# Altium integrated library microchip.IntLib: 312 symbols (part 5 of 5)
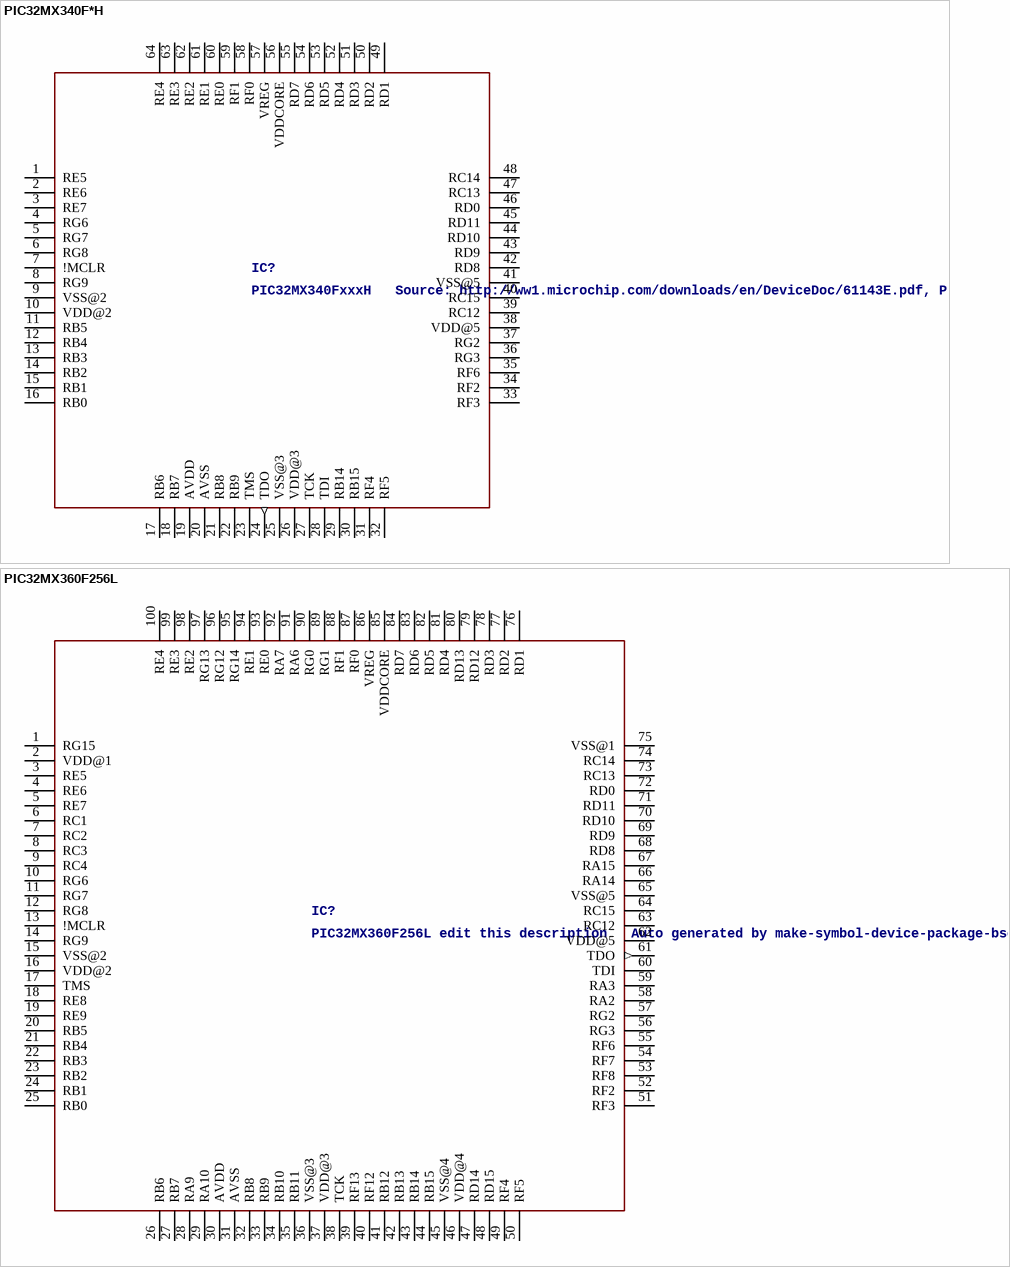
[diagram p47: symbols PIC32MX340F*H to PIC32MX360F256L]

## PIC32MX360F256L
designator IC?, comment PIC32MX360F256L edit this description   Auto generated by make-symbol-device-package-bsdl.ulp Rev. 25 Source: PIC32MX360F256L.bsdl
MPN: PIC32MX360F256L-80I/PT; OC_FARNELL: 1523323; OC_NEWARK: 77M3151
footprint SQFP-S-12X12-100
pins: 1 RG15, 2 VDD@1 (power), 3 RE5, 4 RE6, 5 RE7, 6 RC1, 7 RC2, 8 RC3, 9 RC4, 10 RG6, 11 RG7, 12 RG8, 13 !MCLR, 14 RG9, 15 VSS@2 (power), 16 VDD@2 (power), 17 TMS, 18 RE8, 19 RE9, 20 RB5, 21 RB4, 22 RB3, 23 RB2, 24 RB1, 25 RB0, 26 RB6, 27 RB7, 28 RA9, 29 RA10, 30 AVDD (power), 31 AVSS (power), 32 RB8, 33 RB9, 34 RB10, 35 RB11, 36 VSS@3 (power), 37 VDD@3 (power), 38 TCK, 39 RF13, 40 RF12, 41 RB12, 42 RB13, 43 RB14, 44 RB15, 45 VSS@4 (power), 46 VDD@4 (power), 47 RD14, 48 RD15, 49 RF4, 50 RF5, 51 RF3, 52 RF2, 53 RF8, 54 RF7, 55 RF6, 56 RG3, 57 RG2, 58 RA2, 59 RA3, 60 TDI, 61 TDO (out), 62 VDD@5 (power), 63 RC12, 64 RC15, 65 VSS@5 (power), 66 RA14, 67 RA15, 68 RD8, 69 RD9, 70 RD10, 71 RD11, 72 RD0, 73 RC13, 74 RC14, 75 VSS@1 (power), 76 RD1, 77 RD2, 78 RD3, 79 RD12, 80 RD13, 81 RD4, 82 RD5, 83 RD6, 84 RD7, 85 VDDCORE (power), 86 VREG, 87 RF0, 88 RF1, 89 RG1, 90 RG0, 91 RA6, 92 RA7, 93 RE0, 94 RE1, 95 RG14, 96 RG12, 97 RG13, 98 RE2, 99 RE3, 100 RE4

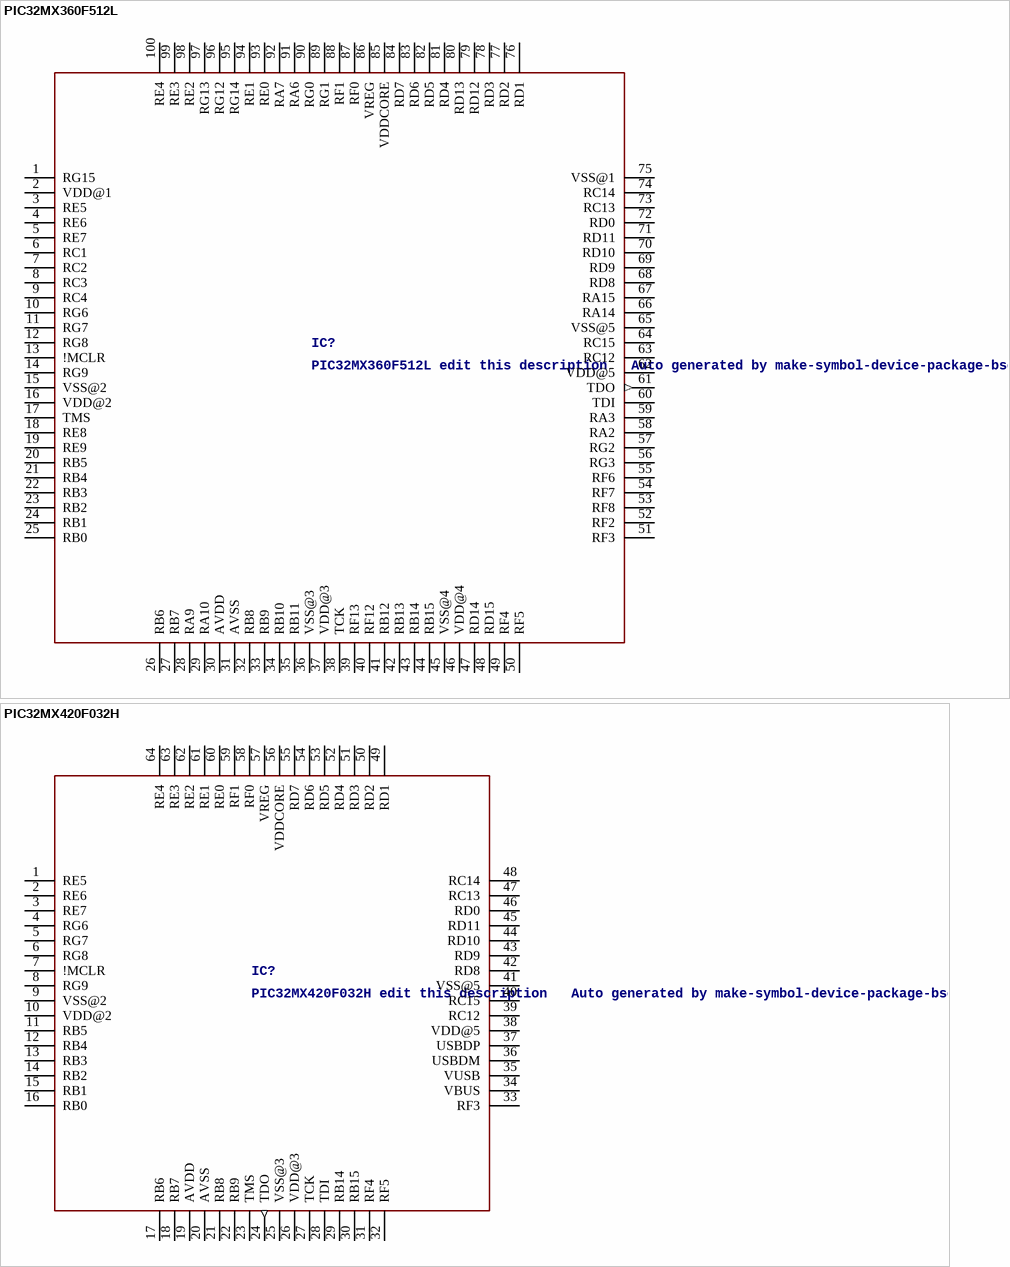
[diagram p39: symbols PIC32MX360F512L to PIC32MX420F032H]

## PIC32MX360F512L
designator IC?, comment PIC32MX360F512L edit this description   Auto generated by make-symbol-device-package-bsdl.ulp Rev. 25 Source: PIC32MX360F512L.bsdl
MPN: PIC32MX360F512L-80I/PT; OC_FARNELL: 1523324; OC_NEWARK: 77M3152
footprint SQFP-S-12X12-100
pins: 1 RG15, 2 VDD@1 (power), 3 RE5, 4 RE6, 5 RE7, 6 RC1, 7 RC2, 8 RC3, 9 RC4, 10 RG6, 11 RG7, 12 RG8, 13 !MCLR, 14 RG9, 15 VSS@2 (power), 16 VDD@2 (power), 17 TMS, 18 RE8, 19 RE9, 20 RB5, 21 RB4, 22 RB3, 23 RB2, 24 RB1, 25 RB0, 26 RB6, 27 RB7, 28 RA9, 29 RA10, 30 AVDD (power), 31 AVSS (power), 32 RB8, 33 RB9, 34 RB10, 35 RB11, 36 VSS@3 (power), 37 VDD@3 (power), 38 TCK, 39 RF13, 40 RF12, 41 RB12, 42 RB13, 43 RB14, 44 RB15, 45 VSS@4 (power), 46 VDD@4 (power), 47 RD14, 48 RD15, 49 RF4, 50 RF5, 51 RF3, 52 RF2, 53 RF8, 54 RF7, 55 RF6, 56 RG3, 57 RG2, 58 RA2, 59 RA3, 60 TDI, 61 TDO (out), 62 VDD@5 (power), 63 RC12, 64 RC15, 65 VSS@5 (power), 66 RA14, 67 RA15, 68 RD8, 69 RD9, 70 RD10, 71 RD11, 72 RD0, 73 RC13, 74 RC14, 75 VSS@1 (power), 76 RD1, 77 RD2, 78 RD3, 79 RD12, 80 RD13, 81 RD4, 82 RD5, 83 RD6, 84 RD7, 85 VDDCORE (power), 86 VREG, 87 RF0, 88 RF1, 89 RG1, 90 RG0, 91 RA6, 92 RA7, 93 RE0, 94 RE1, 95 RG14, 96 RG12, 97 RG13, 98 RE2, 99 RE3, 100 RE4

## PIC32MX420F032H
designator IC?, comment PIC32MX420F032H edit this description   Auto generated by make-symbol-device-package-bsdl.ulp Rev. 25 Source: PIC32MX420F032H.bsdl
MPN: PIC32MX420F032H-40I/PT; MF: MICROCHIP; OC_FARNELL: 1640230; OC_NEWARK: 98M1932
footprint TQFP64-10X10X1MM
pins: 1 RE5, 2 RE6, 3 RE7, 4 RG6, 5 RG7, 6 RG8, 7 !MCLR, 8 RG9, 9 VSS@2 (power), 10 VDD@2 (power), 11 RB5, 12 RB4, 13 RB3, 14 RB2, 15 RB1, 16 RB0, 17 RB6, 18 RB7, 19 AVDD (power), 20 AVSS (power), 21 RB8, 22 RB9, 23 TMS, 24 TDO (out), 25 VSS@3 (power), 26 VDD@3 (power), 27 TCK, 28 TDI, 29 RB14, 30 RB15, 31 RF4, 32 RF5, 33 RF3, 34 VBUS, 35 VUSB, 36 USBDM, 37 USBDP, 38 VDD@5 (power), 39 RC12, 40 RC15, 41 VSS@5 (power), 42 RD8, 43 RD9, 44 RD10, 45 RD11, 46 RD0, 47 RC13, 48 RC14, 49 RD1, 50 RD2, 51 RD3, 52 RD4, 53 RD5, 54 RD6, 55 RD7, 56 VDDCORE (power), 57 VREG, 58 RF0, 59 RF1, 60 RE0, 61 RE1, 62 RE2, 63 RE3, 64 RE4

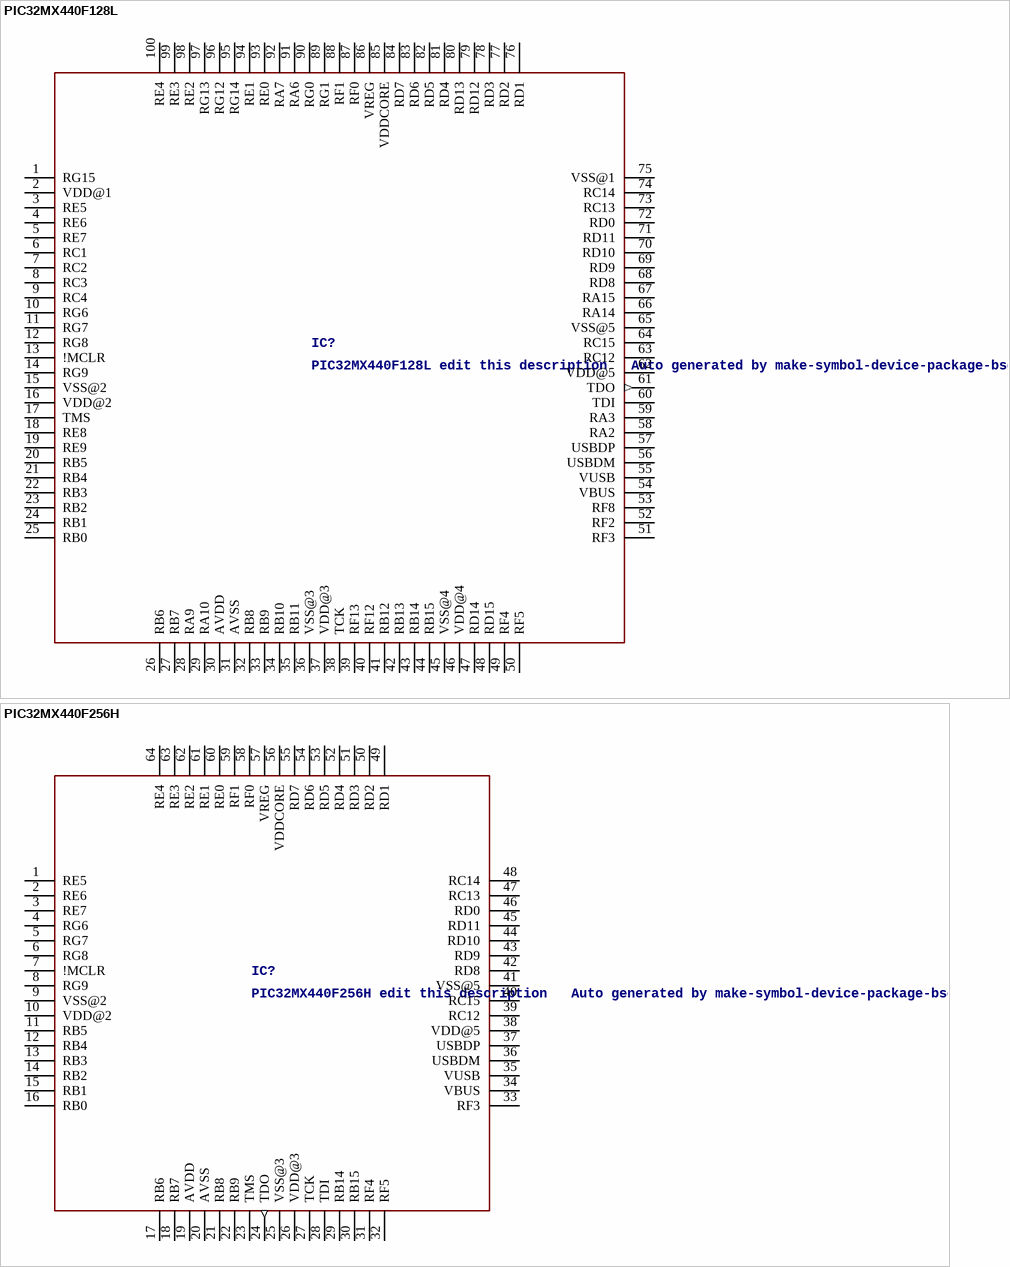
[diagram p40: symbols PIC32MX440F128L to PIC32MX440F256H]

## PIC32MX440F128L
designator IC?, comment PIC32MX440F128L edit this description   Auto generated by make-symbol-device-package-bsdl.ulp Rev. 25 Source: PIC32MX440F128L.bsdl
MPN: PIC32MX440F128L-80I/PT; OC_FARNELL: 1640231; OC_NEWARK: 98M1934
footprint SQFP-S-12X12-100
pins: 1 RG15, 2 VDD@1 (power), 3 RE5, 4 RE6, 5 RE7, 6 RC1, 7 RC2, 8 RC3, 9 RC4, 10 RG6, 11 RG7, 12 RG8, 13 !MCLR, 14 RG9, 15 VSS@2 (power), 16 VDD@2 (power), 17 TMS, 18 RE8, 19 RE9, 20 RB5, 21 RB4, 22 RB3, 23 RB2, 24 RB1, 25 RB0, 26 RB6, 27 RB7, 28 RA9, 29 RA10, 30 AVDD (power), 31 AVSS (power), 32 RB8, 33 RB9, 34 RB10, 35 RB11, 36 VSS@3 (power), 37 VDD@3 (power), 38 TCK, 39 RF13, 40 RF12, 41 RB12, 42 RB13, 43 RB14, 44 RB15, 45 VSS@4 (power), 46 VDD@4 (power), 47 RD14, 48 RD15, 49 RF4, 50 RF5, 51 RF3, 52 RF2, 53 RF8, 54 VBUS, 55 VUSB, 56 USBDM, 57 USBDP, 58 RA2, 59 RA3, 60 TDI, 61 TDO (out), 62 VDD@5 (power), 63 RC12, 64 RC15, 65 VSS@5 (power), 66 RA14, 67 RA15, 68 RD8, 69 RD9, 70 RD10, 71 RD11, 72 RD0, 73 RC13, 74 RC14, 75 VSS@1 (power), 76 RD1, 77 RD2, 78 RD3, 79 RD12, 80 RD13, 81 RD4, 82 RD5, 83 RD6, 84 RD7, 85 VDDCORE (power), 86 VREG, 87 RF0, 88 RF1, 89 RG1, 90 RG0, 91 RA6, 92 RA7, 93 RE0, 94 RE1, 95 RG14, 96 RG12, 97 RG13, 98 RE2, 99 RE3, 100 RE4

## PIC32MX440F256H
designator IC?, comment PIC32MX440F256H edit this description   Auto generated by make-symbol-device-package-bsdl.ulp Rev. 25 Source: PIC32MX440F256H.bsdl
MPN: PIC32MX440F256H-80I/PT; OC_FARNELL: 1778947; OC_NEWARK: 98M1935
footprint TQFP64-10X10
pins: 1 RE5, 2 RE6, 3 RE7, 4 RG6, 5 RG7, 6 RG8, 7 !MCLR, 8 RG9, 9 VSS@2 (power), 10 VDD@2 (power), 11 RB5, 12 RB4, 13 RB3, 14 RB2, 15 RB1, 16 RB0, 17 RB6, 18 RB7, 19 AVDD (power), 20 AVSS (power), 21 RB8, 22 RB9, 23 TMS, 24 TDO (out), 25 VSS@3 (power), 26 VDD@3 (power), 27 TCK, 28 TDI, 29 RB14, 30 RB15, 31 RF4, 32 RF5, 33 RF3, 34 VBUS, 35 VUSB, 36 USBDM, 37 USBDP, 38 VDD@5 (power), 39 RC12, 40 RC15, 41 VSS@5 (power), 42 RD8, 43 RD9, 44 RD10, 45 RD11, 46 RD0, 47 RC13, 48 RC14, 49 RD1, 50 RD2, 51 RD3, 52 RD4, 53 RD5, 54 RD6, 55 RD7, 56 VDDCORE (power), 57 VREG, 58 RF0, 59 RF1, 60 RE0, 61 RE1, 62 RE2, 63 RE3, 64 RE4

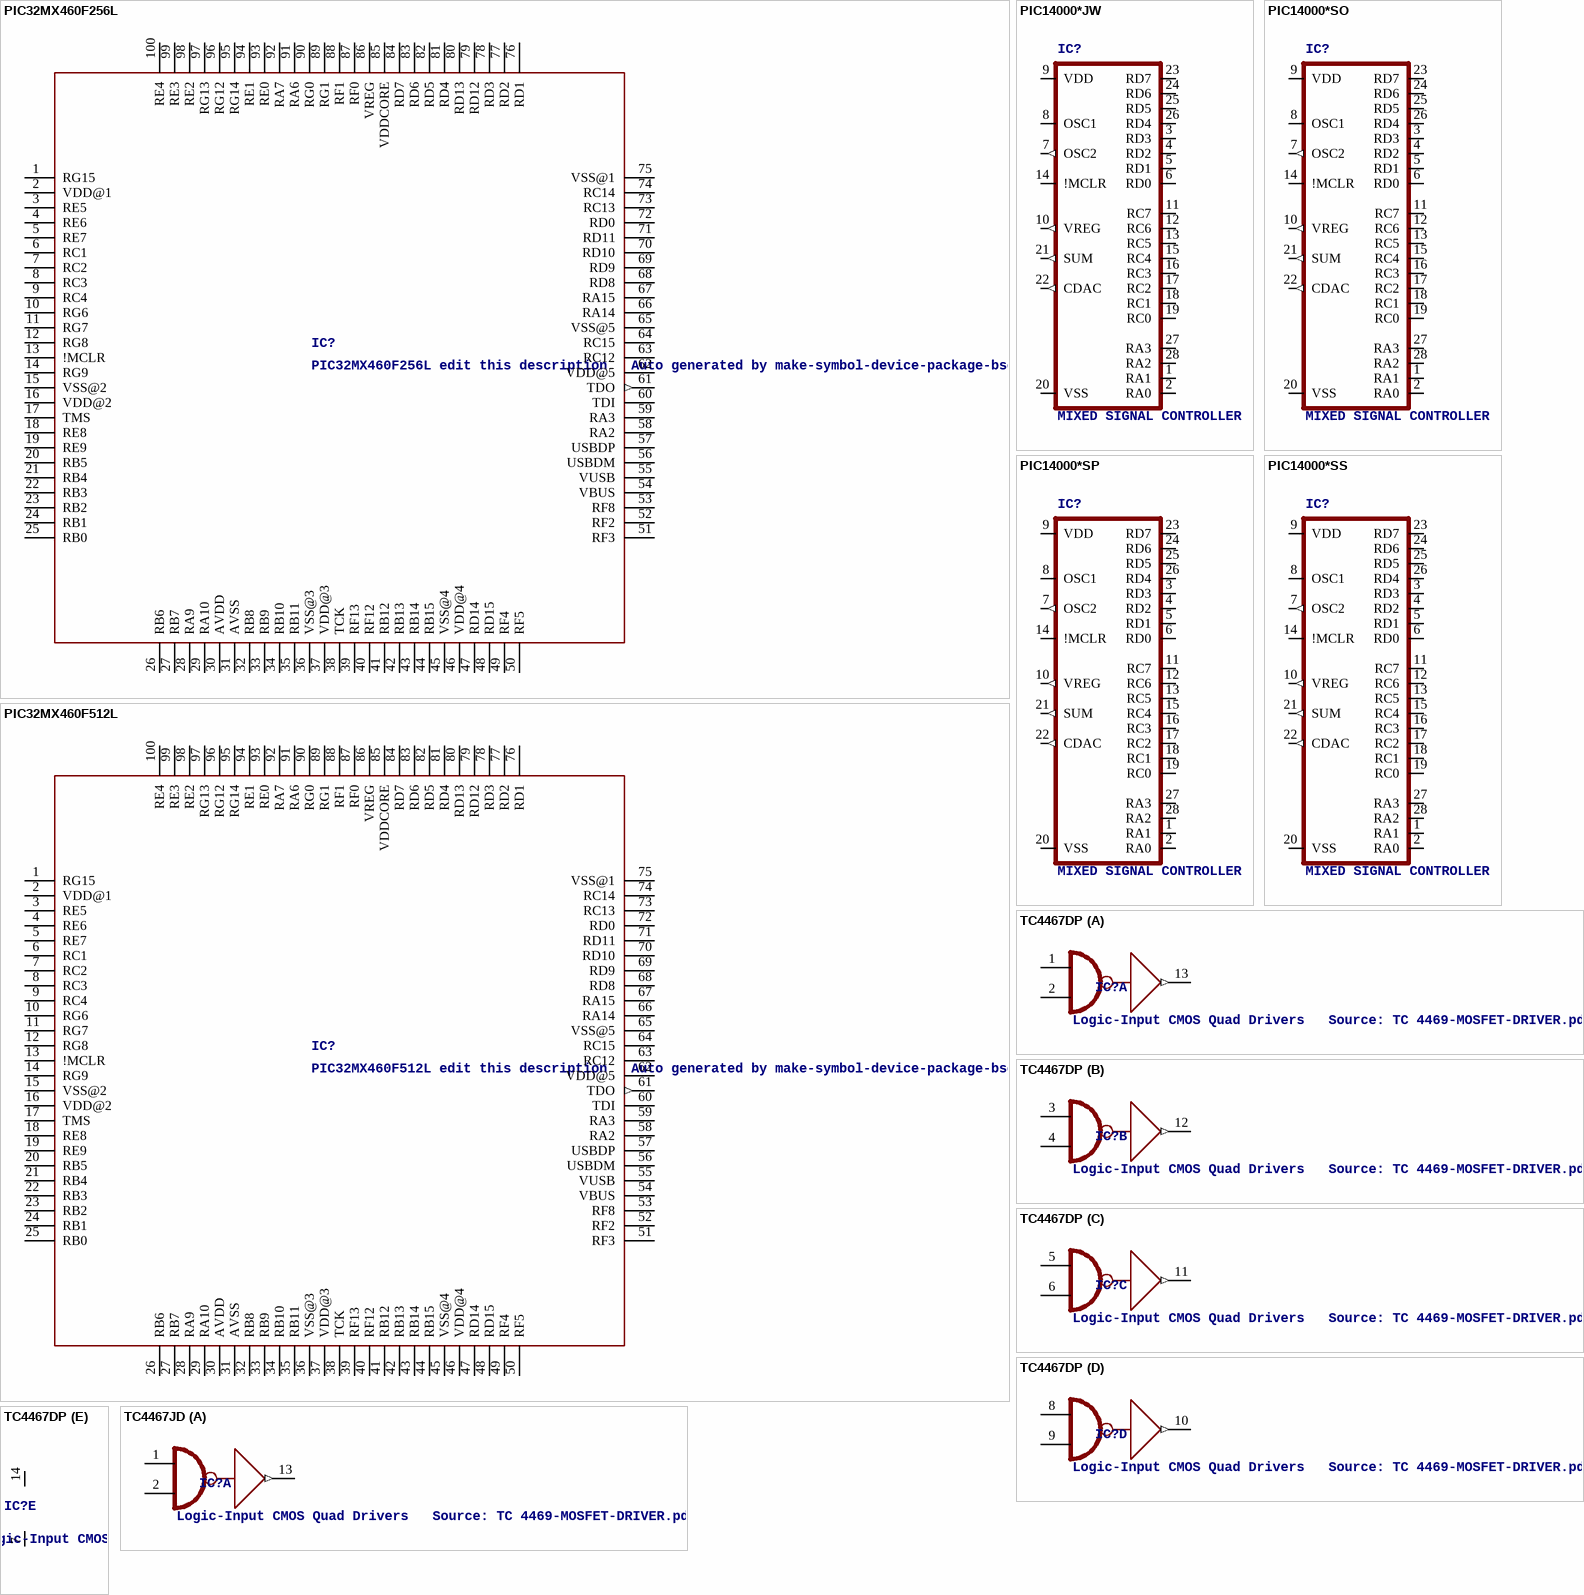
[diagram p41: symbols PIC32MX460F256L to TC4467JD]

## PIC32MX460F256L
designator IC?, comment PIC32MX460F256L edit this description   Auto generated by make-symbol-device-package-bsdl.ulp Rev. 25 Source: PIC32MX460F256L.bsdl
MPN: PIC32MX460F256L-80I/PT; OC_FARNELL: 1778952; OC_NEWARK: 98M1937
footprint SQFP-S-12X12-100
pins: 1 RG15, 2 VDD@1 (power), 3 RE5, 4 RE6, 5 RE7, 6 RC1, 7 RC2, 8 RC3, 9 RC4, 10 RG6, 11 RG7, 12 RG8, 13 !MCLR, 14 RG9, 15 VSS@2 (power), 16 VDD@2 (power), 17 TMS, 18 RE8, 19 RE9, 20 RB5, 21 RB4, 22 RB3, 23 RB2, 24 RB1, 25 RB0, 26 RB6, 27 RB7, 28 RA9, 29 RA10, 30 AVDD (power), 31 AVSS (power), 32 RB8, 33 RB9, 34 RB10, 35 RB11, 36 VSS@3 (power), 37 VDD@3 (power), 38 TCK, 39 RF13, 40 RF12, 41 RB12, 42 RB13, 43 RB14, 44 RB15, 45 VSS@4 (power), 46 VDD@4 (power), 47 RD14, 48 RD15, 49 RF4, 50 RF5, 51 RF3, 52 RF2, 53 RF8, 54 VBUS, 55 VUSB, 56 USBDM, 57 USBDP, 58 RA2, 59 RA3, 60 TDI, 61 TDO (out), 62 VDD@5 (power), 63 RC12, 64 RC15, 65 VSS@5 (power), 66 RA14, 67 RA15, 68 RD8, 69 RD9, 70 RD10, 71 RD11, 72 RD0, 73 RC13, 74 RC14, 75 VSS@1 (power), 76 RD1, 77 RD2, 78 RD3, 79 RD12, 80 RD13, 81 RD4, 82 RD5, 83 RD6, 84 RD7, 85 VDDCORE (power), 86 VREG, 87 RF0, 88 RF1, 89 RG1, 90 RG0, 91 RA6, 92 RA7, 93 RE0, 94 RE1, 95 RG14, 96 RG12, 97 RG13, 98 RE2, 99 RE3, 100 RE4

## PIC32MX460F512L
designator IC?, comment PIC32MX460F512L edit this description   Auto generated by make-symbol-device-package-bsdl.ulp Rev. 25 Source: PIC32MX460F512L.bsdl
MPN: PIC32MX460F512L-80I/PT; OC_FARNELL: 1640233; OC_NEWARK: 98M1938
footprint SQFP-S-12X12-100
pins: 1 RG15, 2 VDD@1 (power), 3 RE5, 4 RE6, 5 RE7, 6 RC1, 7 RC2, 8 RC3, 9 RC4, 10 RG6, 11 RG7, 12 RG8, 13 !MCLR, 14 RG9, 15 VSS@2 (power), 16 VDD@2 (power), 17 TMS, 18 RE8, 19 RE9, 20 RB5, 21 RB4, 22 RB3, 23 RB2, 24 RB1, 25 RB0, 26 RB6, 27 RB7, 28 RA9, 29 RA10, 30 AVDD (power), 31 AVSS (power), 32 RB8, 33 RB9, 34 RB10, 35 RB11, 36 VSS@3 (power), 37 VDD@3 (power), 38 TCK, 39 RF13, 40 RF12, 41 RB12, 42 RB13, 43 RB14, 44 RB15, 45 VSS@4 (power), 46 VDD@4 (power), 47 RD14, 48 RD15, 49 RF4, 50 RF5, 51 RF3, 52 RF2, 53 RF8, 54 VBUS, 55 VUSB, 56 USBDM, 57 USBDP, 58 RA2, 59 RA3, 60 TDI, 61 TDO (out), 62 VDD@5 (power), 63 RC12, 64 RC15, 65 VSS@5 (power), 66 RA14, 67 RA15, 68 RD8, 69 RD9, 70 RD10, 71 RD11, 72 RD0, 73 RC13, 74 RC14, 75 VSS@1 (power), 76 RD1, 77 RD2, 78 RD3, 79 RD12, 80 RD13, 81 RD4, 82 RD5, 83 RD6, 84 RD7, 85 VDDCORE (power), 86 VREG, 87 RF0, 88 RF1, 89 RG1, 90 RG0, 91 RA6, 92 RA7, 93 RE0, 94 RE1, 95 RG14, 96 RG12, 97 RG13, 98 RE2, 99 RE3, 100 RE4

## PIC14000*JW
designator IC?, comment MIXED SIGNAL CONTROLLER
OC_FARNELL: unknown; OC_NEWARK: unknown
footprint DIL28-6
pins: 1 RA1, 2 RA0, 3 RD3, 4 RD2, 5 RD1, 6 RD0, 7 OSC2 (out), 8 OSC1, 9 VDD (power), 10 VREG (out), 11 RC7, 12 RC6, 13 RC5, 14 !MCLR, 15 RC4, 16 RC3, 17 RC2, 18 RC1, 19 RC0, 20 VSS (power), 21 SUM (out), 22 CDAC (out), 23 RD7, 24 RD6, 25 RD5, 26 RD4, 27 RA3, 28 RA2

## PIC14000*SO
designator IC?, comment MIXED SIGNAL CONTROLLER
MPN: PIC14000-04/SO; MF: MICROCHIP; OC_FARNELL: unknown; OC_NEWARK: 23C3058
footprint SO28W
pins: 1 RA1, 2 RA0, 3 RD3, 4 RD2, 5 RD1, 6 RD0, 7 OSC2 (out), 8 OSC1, 9 VDD (power), 10 VREG (out), 11 RC7, 12 RC6, 13 RC5, 14 !MCLR, 15 RC4, 16 RC3, 17 RC2, 18 RC1, 19 RC0, 20 VSS (power), 21 SUM (out), 22 CDAC (out), 23 RD7, 24 RD6, 25 RD5, 26 RD4, 27 RA3, 28 RA2

## PIC14000*SP
designator IC?, comment MIXED SIGNAL CONTROLLER
MPN: PIC14000-04I/SP; MF: MICROCHIP; OC_FARNELL: 9759069; OC_NEWARK: 23C3061
footprint DIL28-3
pins: 1 RA1, 2 RA0, 3 RD3, 4 RD2, 5 RD1, 6 RD0, 7 OSC2 (out), 8 OSC1, 9 VDD (power), 10 VREG (out), 11 RC7, 12 RC6, 13 RC5, 14 !MCLR, 15 RC4, 16 RC3, 17 RC2, 18 RC1, 19 RC0, 20 VSS (power), 21 SUM (out), 22 CDAC (out), 23 RD7, 24 RD6, 25 RD5, 26 RD4, 27 RA3, 28 RA2

## PIC14000*SS
designator IC?, comment MIXED SIGNAL CONTROLLER
MPN: PIC14000-04/SS; MF: MICROCHIP; OC_FARNELL: unknown; OC_NEWARK: 12C1860
footprint SSOP28
pins: 1 RA1, 2 RA0, 3 RD3, 4 RD2, 5 RD1, 6 RD0, 7 OSC2 (out), 8 OSC1, 9 VDD (power), 10 VREG (out), 11 RC7, 12 RC6, 13 RC5, 14 !MCLR, 15 RC4, 16 RC3, 17 RC2, 18 RC1, 19 RC0, 20 VSS (power), 21 SUM (out), 22 CDAC (out), 23 RD7, 24 RD6, 25 RD5, 26 RD4, 27 RA3, 28 RA2

## TC4467DP
designator IC?, comment Logic-Input CMOS Quad Drivers   Source: TC 4469-MOSFET-DRIVER.pdf
MPN: TC4467CPD; MF: MICROCHIP; OC_FARNELL: unknown; OC_NEWARK: 92C6150
footprint DIL14
part A pins: 1 A, 2 B, 13 Y (out)
part B pins: 3 A, 4 B, 12 Y (out)
part C pins: 5 A, 6 B, 11 Y (out)
part D pins: 8 A, 9 B, 10 Y (out)
part E pins: 7 GND (power), 14 VDD (power)

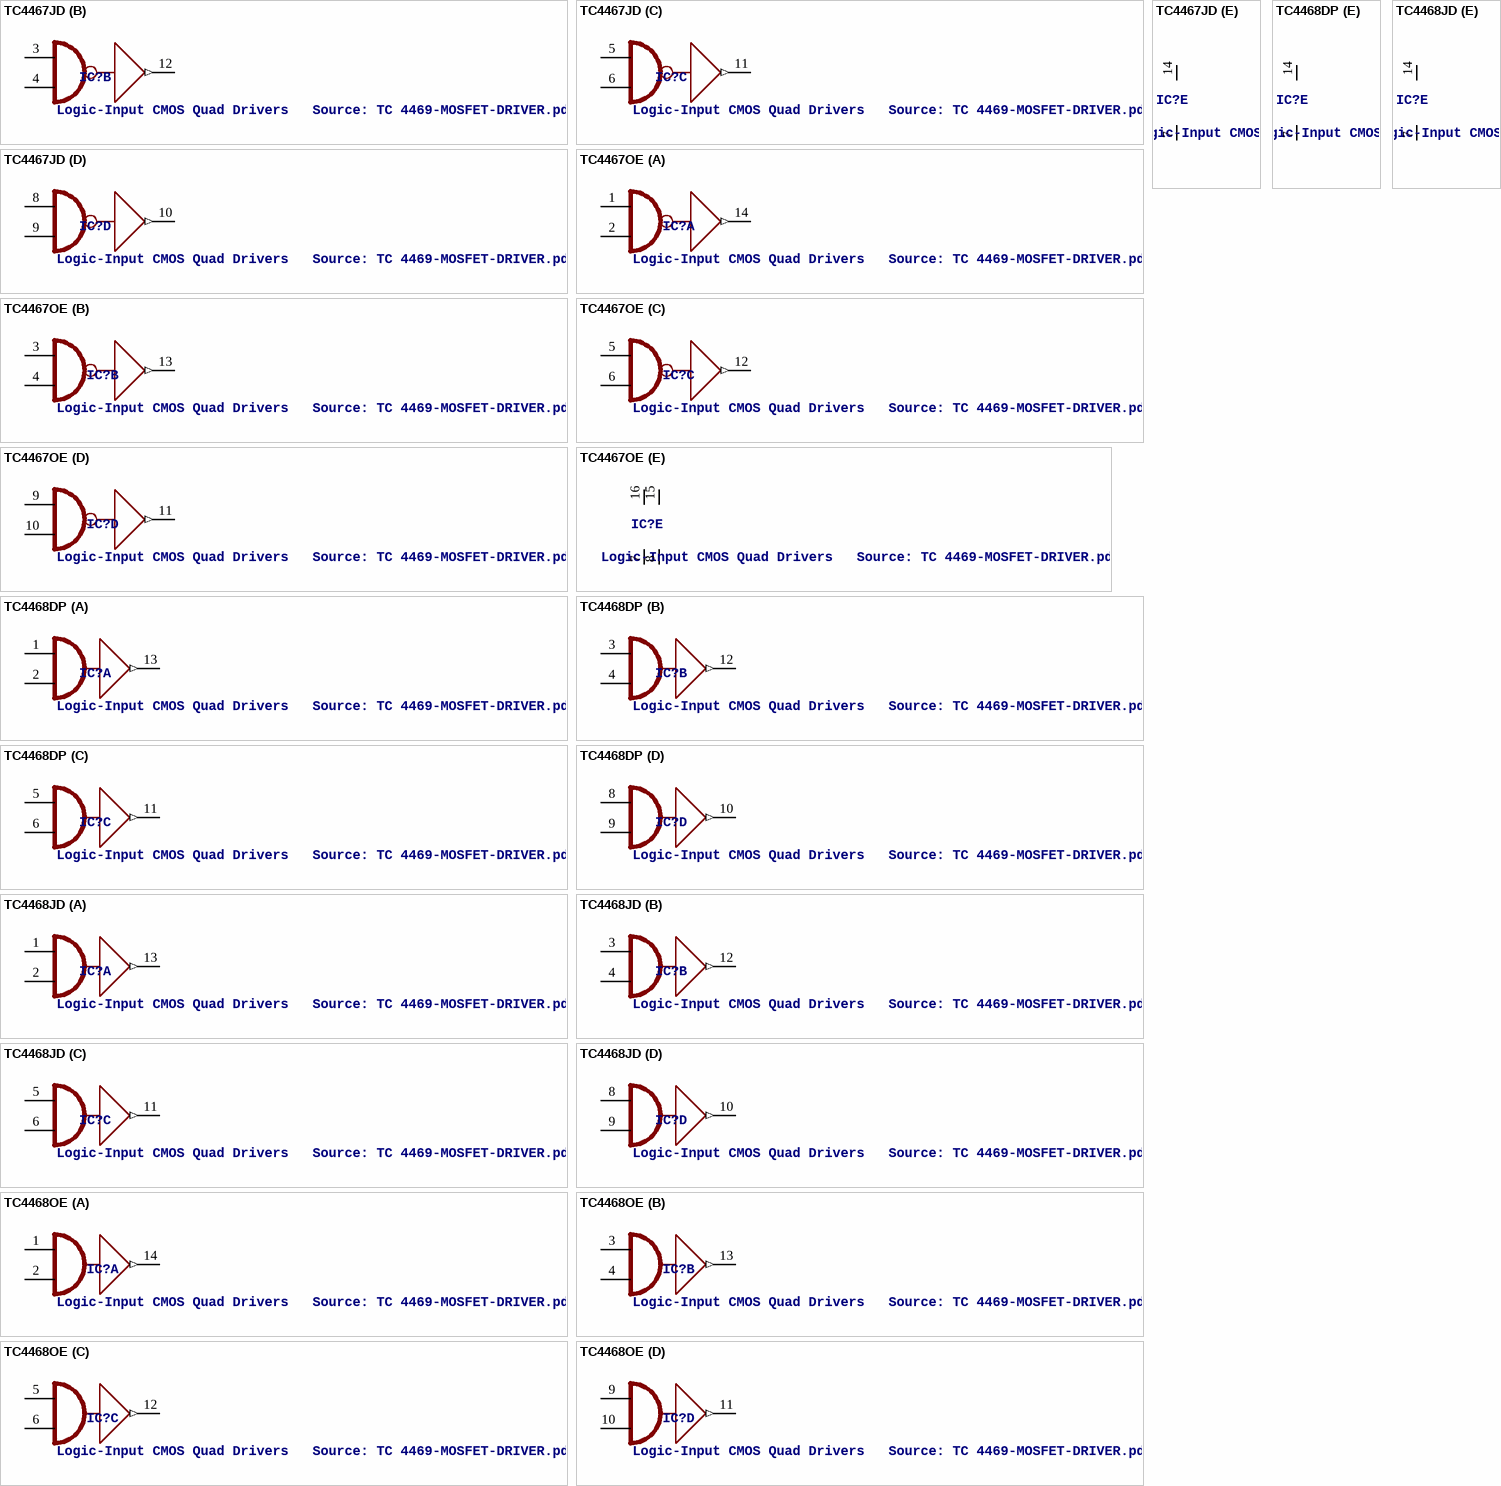
[diagram p42: symbols TC4467JD to TC4468OE]

## TC4467JD
designator IC?, comment Logic-Input CMOS Quad Drivers   Source: TC 4469-MOSFET-DRIVER.pdf
MPN: TC4467CPD; MF: MICROCHIP; OC_FARNELL: unknown; OC_NEWARK: 92C6150
footprint DIL14
part A pins: 1 A, 2 B, 13 Y (out)
part B pins: 3 A, 4 B, 12 Y (out)
part C pins: 5 A, 6 B, 11 Y (out)
part D pins: 8 A, 9 B, 10 Y (out)
part E pins: 7 GND (power), 14 VDD (power)

## TC4467OE
designator IC?, comment Logic-Input CMOS Quad Drivers   Source: TC 4469-MOSFET-DRIVER.pdf
MPN: TC4467COE; MF: MICROCHIP; OC_FARNELL: 1836408; OC_NEWARK: 92C6148
footprint SO-16DW
part A pins: 1 A, 2 B, 14 Y (out)
part B pins: 3 A, 4 B, 13 Y (out)
part C pins: 5 A, 6 B, 12 Y (out)
part D pins: 9 A, 10 B, 11 Y (out)
part E pins: 7 GND (power), 8 GND@1 (power), 15 VDD@1 (power), 16 VDD (power)

## TC4468DP
designator IC?, comment Logic-Input CMOS Quad Drivers   Source: TC 4469-MOSFET-DRIVER.pdf
MPN: TC4468CPD; MF: MICROCHIP; OC_FARNELL: 1557406; OC_NEWARK: 54K2859
footprint DIL14
part A pins: 1 A, 2 B, 13 Y (out)
part B pins: 3 A, 4 B, 12 Y (out)
part C pins: 5 A, 6 B, 11 Y (out)
part D pins: 8 A, 9 B, 10 Y (out)
part E pins: 7 GND (power), 14 VDD (power)

## TC4468JD
designator IC?, comment Logic-Input CMOS Quad Drivers   Source: TC 4469-MOSFET-DRIVER.pdf
OC_FARNELL: unknown; OC_NEWARK: unknown
footprint DIL14
part A pins: 1 A, 2 B, 13 Y (out)
part B pins: 3 A, 4 B, 12 Y (out)
part C pins: 5 A, 6 B, 11 Y (out)
part D pins: 8 A, 9 B, 10 Y (out)
part E pins: 7 GND (power), 14 VDD (power)

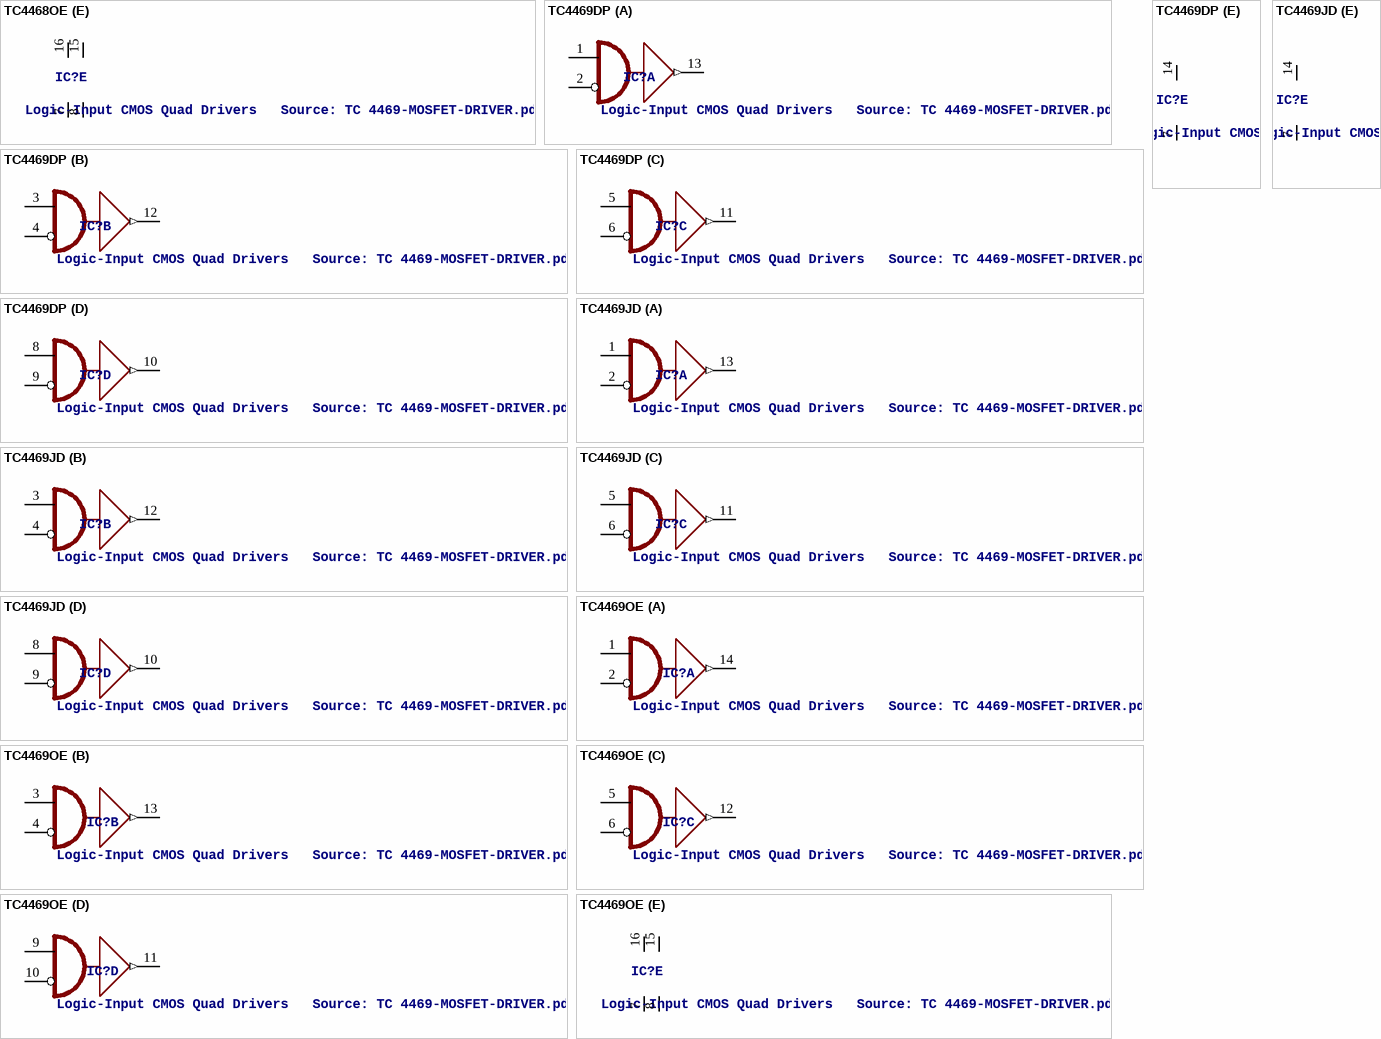
[diagram p43: symbols TC4468OE to TC4469OE]

## TC4468OE
designator IC?, comment Logic-Input CMOS Quad Drivers   Source: TC 4469-MOSFET-DRIVER.pdf
MPN: TC4468EOE; MF: MICROCHIP; OC_FARNELL: 1840858; OC_NEWARK: 56J8344
footprint SO-16DW
part A pins: 1 A, 2 B, 14 Y (out)
part B pins: 3 A, 4 B, 13 Y (out)
part C pins: 5 A, 6 B, 12 Y (out)
part D pins: 9 A, 10 B, 11 Y (out)
part E pins: 7 GND (power), 8 GND@1 (power), 15 VDD@1 (power), 16 VDD (power)

## TC4469DP
designator IC?, comment Logic-Input CMOS Quad Drivers   Source: TC 4469-MOSFET-DRIVER.pdf
MPN: TC4469CPD; MF: MICROCHIP; OC_FARNELL: 1439739; OC_NEWARK: 92C6160
footprint DIL14
part A pins: 1 A, 2 B, 13 Y (out)
part B pins: 3 A, 4 B, 12 Y (out)
part C pins: 5 A, 6 B, 11 Y (out)
part D pins: 8 A, 9 B, 10 Y (out)
part E pins: 7 GND (power), 14 VDD (power)

## TC4469JD
designator IC?, comment Logic-Input CMOS Quad Drivers   Source: TC 4469-MOSFET-DRIVER.pdf
OC_FARNELL: unknown; OC_NEWARK: unknown
footprint DIL14
part A pins: 1 A, 2 B, 13 Y (out)
part B pins: 3 A, 4 B, 12 Y (out)
part C pins: 5 A, 6 B, 11 Y (out)
part D pins: 8 A, 9 B, 10 Y (out)
part E pins: 7 GND (power), 14 VDD (power)

## TC4469OE
designator IC?, comment Logic-Input CMOS Quad Drivers   Source: TC 4469-MOSFET-DRIVER.pdf
MPN: TC4469COE; MF: MICROCHIP; OC_FARNELL: 1292288; OC_NEWARK: 92C6158
footprint SO-16DW
part A pins: 1 A, 2 B, 14 Y (out)
part B pins: 3 A, 4 B, 13 Y (out)
part C pins: 5 A, 6 B, 12 Y (out)
part D pins: 9 A, 10 B, 11 Y (out)
part E pins: 7 GND (power), 8 GND@1 (power), 15 VDD@1 (power), 16 VDD (power)